# Altium footprint library 1747786-1.PcbLib: 1 footprints
Each footprint in its own frame and in the unit in brackets; x right, y up, seen from the top. Pads: shape width x height; smd on the part's side, far side on the other; paste and mask are expansions set on the pad; w line width, h text height; cw(c..) or ccw(c..) is an arc to the next point about the centre after c.
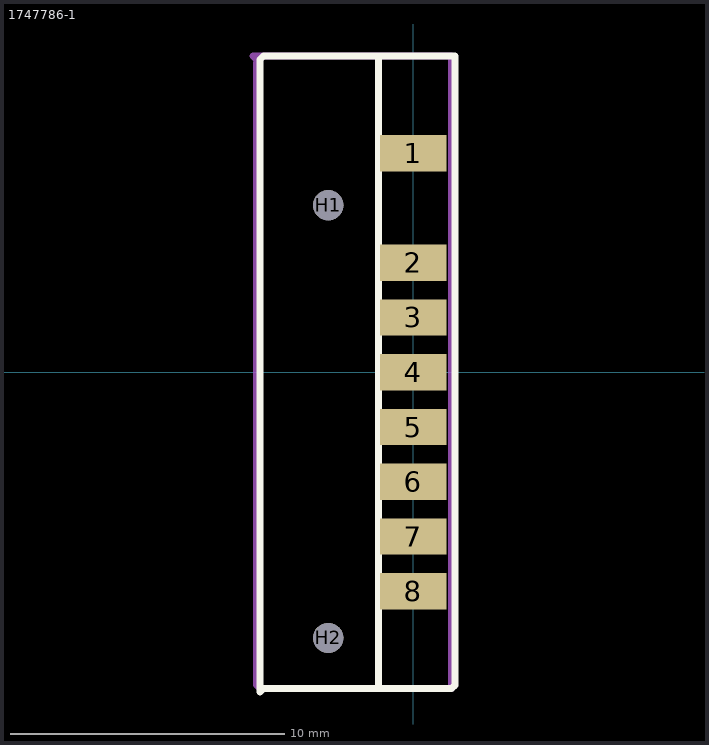
[diagram p0: the footprint, top view; thin cyan lines are the x and y axes]

## 1747786-1 [mm]
pads (10):
  rect 2.43x1.33 smd: 1(0,8) 2(0,4) 3(0,2) 4(0,0) 5(0,-2) 6(0,-4) 7(0,-6) 8(0,-8)
  round 1.1 hole 1.1 mask+0: H1(-3.1,6.1) H2(-3.1,-9.7)
Top Overlay:
  lines w0.254: -1.27,-11.531 -1.27,8.763 -1.27,11.483 ; -5.588,-11.685 -5.588,11.429 -5.461,11.556 1.524,11.556 1.524,-11.431 1.397,-11.558 -5.461,-11.558 -5.588,-11.685
Mechanical 1:
  lines w0.254: -5.715,11.303 -5.715,-11.43 -5.588,-11.557 1.397,-11.557 1.397,11.557 -5.461,11.557 -5.842,11.557 -5.715,11.43
3D body "c-1747786-1-o-3d.stp": height 7, standoff -0.15, extent -5.55,-11.6 1.35,11.6